# EAGLE library part FSUSB42MUX (library distributed-vision)
USB Switch IC Channel 10-MSOP
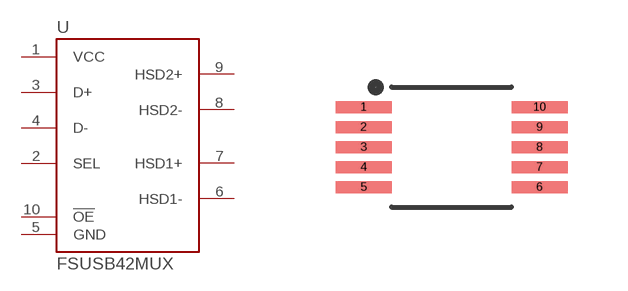
[diagram p2: symbol with the pads of 10-MSOP; footprint 10-MSOP]

Designator prefix U

## FSUSB42MUX (DKPN: FSUSB42MUXCT-ND)  [10-MSOP]
1  VCC
2  SEL
3  D+
4  D-
5  GND
6  HSD1-
7  HSD1+
8  HSD2-
9  HSD2+
10  !OE

## Footprint 10-MSOP (pad centres in mm)
smd 1.4 x 0.3: 1 -2.2,1; 2 -2.2,0.5; 3 -2.2,0; 4 -2.2,-0.5; 5 -2.2,-1; 6 2.2,-1; 7 2.2,-0.5; 8 2.2,0; 9 2.2,0.5; 10 2.2,1